# EAGLE library part CARAMBOLA2 (library Carambola2)
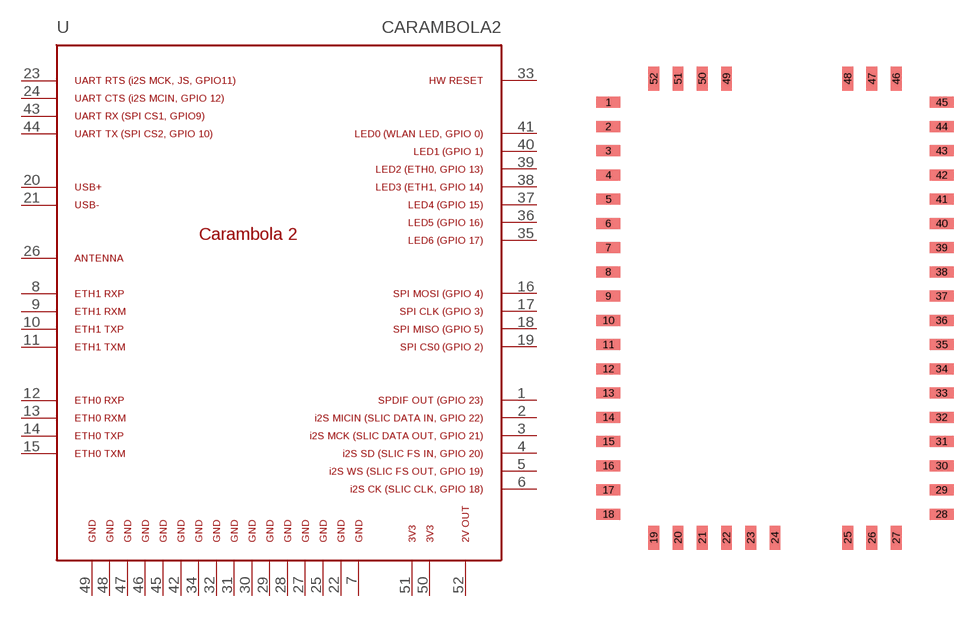
[diagram p0: symbol with the pads of CARAMBOLA2; footprint CARAMBOLA2]

Designator prefix -

## CARAMBOLA2  [CARAMBOLA2]
1  1
2  2
3  3
4  4
5  5
6  6
7  7  sup
8  8  in
9  9  in
10  10  out
11  11  out
12  12  in
13  13  in
14  14  out
15  15  out
16  16
17  17
18  18
19  19
20  20  out
21  21  out
22  22  sup
23  23  in
24  24  in
25  25  sup
26  26  out
27  27  sup
28  28  sup
29  29  sup
30  30  sup
31  31  sup
32  32  sup
33  33
34  34  sup
35  35
36  36
37  37
38  38
39  39
40  40
41  41
42  42  sup
43  43  in
44  44  out
45  45  sup
46  46  sup
47  47  sup
48  48  sup
49  49  sup
50  50  sup
51  51  sup
52  P$1  sup

## Footprint CARAMBOLA2 (pad centres in mm)
TODO Generated by 'madparts'. Id: fc226714e36e4508b1fc21a819f1be55
smd 2 x 0.9: 1 -13.75,17; 2 -13.75,15; 3 -13.75,13; 4 -13.75,11; 5 -13.75,9; 6 -13.75,7; 7 -13.75,5; 8 -13.75,3; 9 -13.75,1; 10 -13.75,-1; 11 -13.75,-3; 12 -13.75,-5; 13 -13.75,-7; 14 -13.75,-9; 15 -13.75,-11; 16 -13.75,-13; 17 -13.75,-15; 18 -13.75,-17; 28 13.75,-17; 29 13.75,-15; 30 13.75,-13; 31 13.75,-11; 32 13.75,-9; 33 13.75,-7; 34 13.75,-5; 35 13.75,-3; 36 13.75,-1; 37 13.75,1; 38 13.75,3; 39 13.75,5; 40 13.75,7; 41 13.75,9; 42 13.75,11; 43 13.75,13; 44 13.75,15; 45 13.75,17
smd 0.9 x 2: 19 -10,-18.95; 20 -8,-18.95; 21 -6,-18.95; 22 -4,-18.95; 23 -2,-18.95; 24 0,-18.95; 25 6,-18.95; 26 8,-18.95; 27 10,-18.95; 46 10,18.95; 47 8,18.95; 48 6,18.95; 49 -4,18.95; 50 -6,18.95; 51 -8,18.95; 52 -10,18.95